# Altium footprint library HDRV4W66P0X254_1X4_1016X249X1067P.PcbLib: 1 footprints
Each footprint in its own frame and in the unit in brackets; x right, y up, seen from the top. Pads: shape width x height; smd on the part's side, far side on the other; paste and mask are expansions set on the pad; w line width, h text height; cw(c..) or ccw(c..) is an arc to the next point about the centre after c.
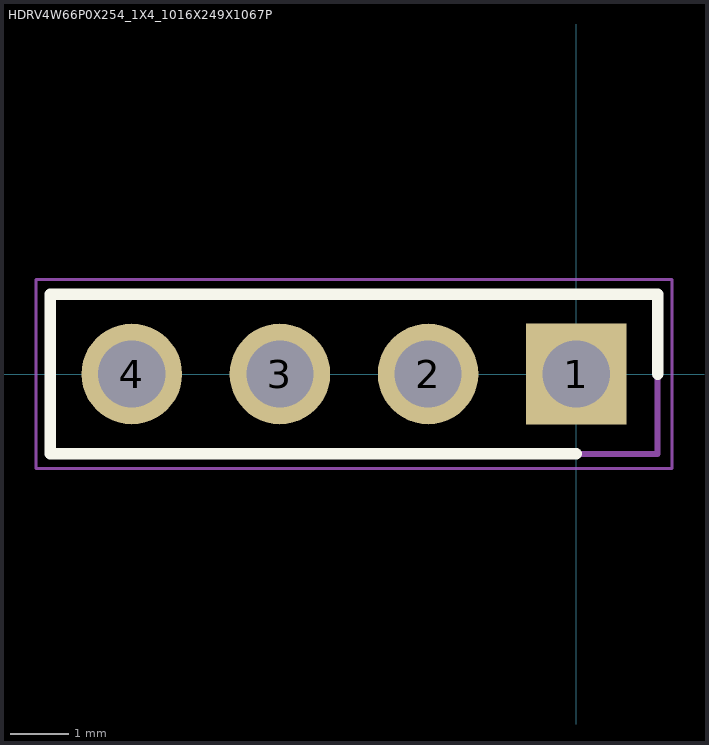
[diagram p0: the footprint, top view; thin cyan lines are the x and y axes]

## HDRV4W66P0X254_1X4_1016X249X1067P [mm]
pads (4):
  rect 1.725x1.725 / inner round 1.725 / far side rect 1.725x1.725 hole 1.15: 1(0,0)
  round 1.725 hole 1.15: 2(-2.54,0) 3(-5.08,0) 4(-7.62,0)
Top Overlay:
  lines w0.2: 0,-1.37 -9.015,-1.37 -9.015,1.37 1.395,1.37 1.395,0
Mechanical 15:
  lines w0.1: -9.015,-1.37 1.395,-1.37 1.395,1.37 -9.015,1.37 -9.015,-1.37
Mechanical 20:
  lines w0.05: -9.265,-1.62 1.645,-1.62 1.645,1.62 -9.265,1.62 -9.265,-1.62